# EAGLE library part IC-8PIN (library yapo)
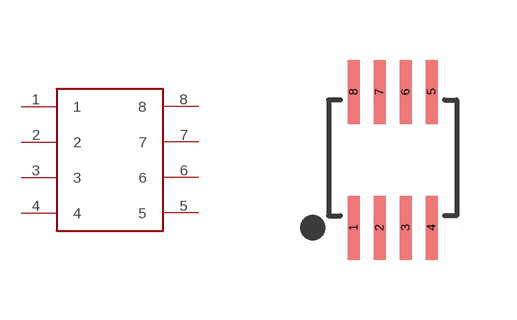
[diagram p52: symbol with the pads of SSOP8; footprint SSOP8]

Designator prefix IC

## IC-8PINSSOP8  [SSOP8]
1  1
2  2
3  3
4  4
5  5
6  6
7  7
8  8

## Footprint SSOP8 (pad centres in mm)
smd 0.3 x 1.6: 1 -0.975,-1.7; 2 -0.325,-1.7; 3 0.325,-1.7; 4 0.975,-1.7; 5 0.975,1.7; 6 0.325,1.7; 7 -0.325,1.7; 8 -0.975,1.7